# Altium schematic symbol library SCH - MCU - STM32 - ST MICROELECTRONICS STM32L083R(B-Z)HX TFBGA64.SchLib: 1 symbol
Pins are listed as number, name and electrical type; pins without a type are passive.

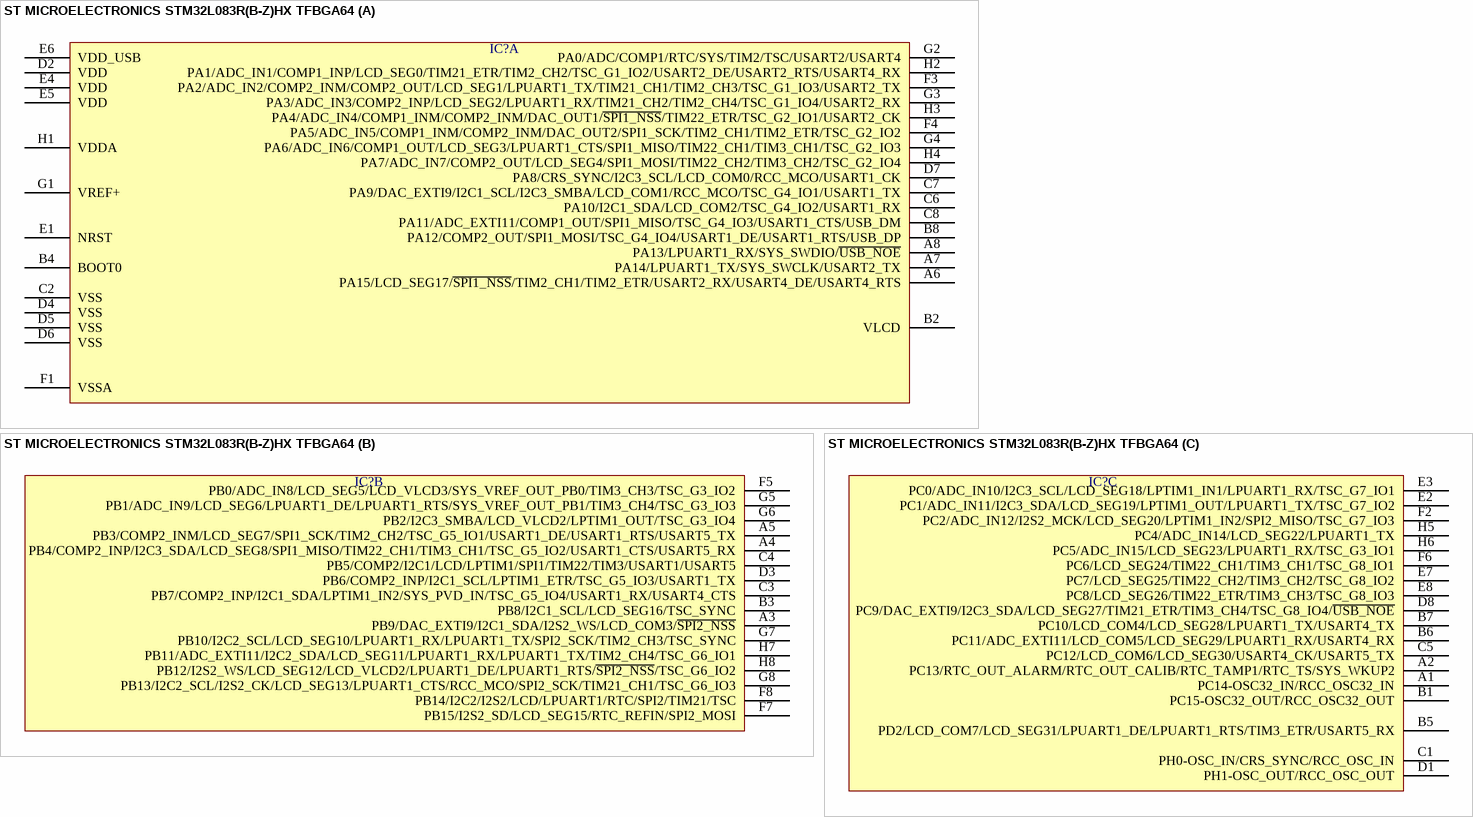
[diagram p0: symbol ST MICROELECTRONICS STM32L083R(B-Z)HX TFBGA64]

## ST MICROELECTRONICS STM32L083R(B-Z)HX TFBGA64
designator IC?  (value not drawn)
part A pins: A6 PA15/LCD_SEG17/~{SPI1_NSS}/TIM2_CH1/TIM2_ETR/USART2_RX/USART4_DE/USART4_RTS, A7 PA14/LPUART1_TX/SYS_SWCLK/USART2_TX, A8 PA13/LPUART1_RX/SYS_SWDIO/~{USB_NOE}, B2 VLCD, B4 BOOT0, B8 PA12/COMP2_OUT/SPI1_MOSI/TSC_G4_IO4/USART1_DE/USART1_RTS/USB_DP, C2 VSS, C6 PA10/I2C1_SDA/LCD_COM2/TSC_G4_IO2/USART1_RX, C7 PA9/DAC_EXTI9/I2C1_SCL/I2C3_SMBA/LCD_COM1/RCC_MCO/TSC_G4_IO1/USART1_TX, C8 PA11/ADC_EXTI11/COMP1_OUT/SPI1_MISO/TSC_G4_IO3/USART1_CTS/USB_DM, D2 VDD, D4 VSS, D5 VSS, D6 VSS, D7 PA8/CRS_SYNC/I2C3_SCL/LCD_COM0/RCC_MCO/USART1_CK, E1 NRST, E4 VDD, E5 VDD, E6 VDD_USB, F1 VSSA, F3 PA2/ADC_IN2/COMP2_INM/COMP2_OUT/LCD_SEG1/LPUART1_TX/TIM21_CH1/TIM2_CH3/TSC_G1_IO3/USART2_TX, F4 PA5/ADC_IN5/COMP1_INM/COMP2_INM/DAC_OUT2/SPI1_SCK/TIM2_CH1/TIM2_ETR/TSC_G2_IO2, G1 VREF+, G2 PA0/ADC/COMP1/RTC/SYS/TIM2/TSC/USART2/USART4, G3 PA3/ADC_IN3/COMP2_INP/LCD_SEG2/LPUART1_RX/TIM21_CH2/TIM2_CH4/TSC_G1_IO4/USART2_RX, G4 PA6/ADC_IN6/COMP1_OUT/LCD_SEG3/LPUART1_CTS/SPI1_MISO/TIM22_CH1/TIM3_CH1/TSC_G2_IO3, H1 VDDA, H2 PA1/ADC_IN1/COMP1_INP/LCD_SEG0/TIM21_ETR/TIM2_CH2/TSC_G1_IO2/USART2_DE/USART2_RTS/USART4_RX, H3 PA4/ADC_IN4/COMP1_INM/COMP2_INM/DAC_OUT1/~{SPI1_NSS}/TIM22_ETR/TSC_G2_IO1/USART2_CK, H4 PA7/ADC_IN7/COMP2_OUT/LCD_SEG4/SPI1_MOSI/TIM22_CH2/TIM3_CH2/TSC_G2_IO4
part B pins: A3 PB9/DAC_EXTI9/I2C1_SDA/I2S2_WS/LCD_COM3/~{SPI2_NSS}, A4 PB4/COMP2_INP/I2C3_SDA/LCD_SEG8/SPI1_MISO/TIM22_CH1/TIM3_CH1/TSC_G5_IO2/USART1_CTS/USART5_RX, A5 PB3/COMP2_INM/LCD_SEG7/SPI1_SCK/TIM2_CH2/TSC_G5_IO1/USART1_DE/USART1_RTS/USART5_TX, B3 PB8/I2C1_SCL/LCD_SEG16/TSC_SYNC, C3 PB7/COMP2_INP/I2C1_SDA/LPTIM1_IN2/SYS_PVD_IN/TSC_G5_IO4/USART1_RX/USART4_CTS, C4 PB5/COMP2/I2C1/LCD/LPTIM1/SPI1/TIM22/TIM3/USART1/USART5, D3 PB6/COMP2_INP/I2C1_SCL/LPTIM1_ETR/TSC_G5_IO3/USART1_TX, F5 PB0/ADC_IN8/LCD_SEG5/LCD_VLCD3/SYS_VREF_OUT_PB0/TIM3_CH3/TSC_G3_IO2, F7 PB15/I2S2_SD/LCD_SEG15/RTC_REFIN/SPI2_MOSI, F8 PB14/I2C2/I2S2/LCD/LPUART1/RTC/SPI2/TIM21/TSC, G5 PB1/ADC_IN9/LCD_SEG6/LPUART1_DE/LPUART1_RTS/SYS_VREF_OUT_PB1/TIM3_CH4/TSC_G3_IO3, G6 PB2/I2C3_SMBA/LCD_VLCD2/LPTIM1_OUT/TSC_G3_IO4, G7 PB10/I2C2_SCL/LCD_SEG10/LPUART1_RX/LPUART1_TX/SPI2_SCK/TIM2_CH3/TSC_SYNC, G8 PB13/I2C2_SCL/I2S2_CK/LCD_SEG13/LPUART1_CTS/RCC_MCO/SPI2_SCK/TIM21_CH1/TSC_G6_IO3, H7 PB11/ADC_EXTI11/I2C2_SDA/LCD_SEG11/LPUART1_RX/LPUART1_TX/TIM2_CH4/TSC_G6_IO1, H8 PB12/I2S2_WS/LCD_SEG12/LCD_VLCD2/LPUART1_DE/LPUART1_RTS/~{SPI2_NSS}/TSC_G6_IO2
part C pins: A1 PC14-OSC32_IN/RCC_OSC32_IN, A2 PC13/RTC_OUT_ALARM/RTC_OUT_CALIB/RTC_TAMP1/RTC_TS/SYS_WKUP2, B1 PC15-OSC32_OUT/RCC_OSC32_OUT, B5 PD2/LCD_COM7/LCD_SEG31/LPUART1_DE/LPUART1_RTS/TIM3_ETR/USART5_RX, B6 PC11/ADC_EXTI11/LCD_COM5/LCD_SEG29/LPUART1_RX/USART4_RX, B7 PC10/LCD_COM4/LCD_SEG28/LPUART1_TX/USART4_TX, C1 PH0-OSC_IN/CRS_SYNC/RCC_OSC_IN, C5 PC12/LCD_COM6/LCD_SEG30/USART4_CK/USART5_TX, D1 PH1-OSC_OUT/RCC_OSC_OUT, D8 PC9/DAC_EXTI9/I2C3_SDA/LCD_SEG27/TIM21_ETR/TIM3_CH4/TSC_G8_IO4/~{USB_NOE}, E2 PC1/ADC_IN11/I2C3_SDA/LCD_SEG19/LPTIM1_OUT/LPUART1_TX/TSC_G7_IO2, E3 PC0/ADC_IN10/I2C3_SCL/LCD_SEG18/LPTIM1_IN1/LPUART1_RX/TSC_G7_IO1, E7 PC7/LCD_SEG25/TIM22_CH2/TIM3_CH2/TSC_G8_IO2, E8 PC8/LCD_SEG26/TIM22_ETR/TIM3_CH3/TSC_G8_IO3, F2 PC2/ADC_IN12/I2S2_MCK/LCD_SEG20/LPTIM1_IN2/SPI2_MISO/TSC_G7_IO3, F6 PC6/LCD_SEG24/TIM22_CH1/TIM3_CH1/TSC_G8_IO1, H5 PC4/ADC_IN14/LCD_SEG22/LPUART1_TX, H6 PC5/ADC_IN15/LCD_SEG23/LPUART1_RX/TSC_G3_IO1